# Altium schematic symbol library TLV313QDCKRQ1.SchLib: 1 symbol
Pins are listed as number, name and electrical type; pins without a type are passive.

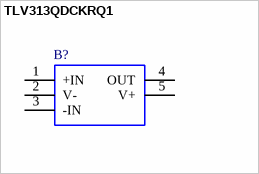
[diagram p0: symbol TLV313QDCKRQ1]

## TLV313QDCKRQ1
designator B?
Low-Power, Rail-to-Rail In/Out, Op Amp; Manufacturer_Name: Texas Instruments; Geometry.Height: 1.1mm; Manufacturer_Part_Number: TLV313QDCKRQ1; Mouser Part Number: 595-TLV313QDCKRQ1; Mouser Price/Stock: https://www.mouser.co.uk/ProductDetail/Texas-Instruments/TLV313QDCKRQ1?qs=j%252B1pi9TdxUax6BuGmY%2Ft0g%3D%3D; Arrow Part Number: TLV313QDCKRQ1; Arrow Price/Stock: https://www.arrow.com/en/products/tlv313qdckrq1/texas-instruments?region=nac; Mouser Testing Part Number: *; Mouser Testing Price/Stock: *; Datasheet Link: http://www.ti.com/lit/gpn/tlv313-q1
footprint SOT65P210X110-5N
pins: 1 +IN, 2 V-, 3 -IN, 4 OUT, 5 V+